# Altium schematic symbol library Logic.SchLib: 1 symbol
Pins are listed as number, name and electrical type; pins without a type are passive.

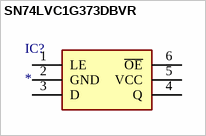
[diagram p0: symbol SN74LVC1G373DBVR]

## SN74LVC1G373DBVR
designator IC?
Integrated Circuit; Manufacturer_Name: Texas Instruments; Manufacturer_Part_Number: SN74LVC1G373DBVR; Description: Single D-Type Latch with 3S Output; Datasheet Link: http://www.ti.com/lit/gpn/sn74lvc1g373; Height: 1.45mm; Mouser Part Number: 595-SN74LVC1G373DBVR; Mouser Price/Stock: https://www.mouser.co.uk/ProductDetail/Texas-Instruments/SN74LVC1G373DBVR?qs=pajgIaoyDUhGcf%252BSO1j05w%3D%3D; Arrow Part Number: SN74LVC1G373DBVR; Arrow Price/Stock: https://www.arrow.com/en/products/sn74lvc1g373dbvr/texas-instruments?region=nac
footprint SOT95P280X145-6N (Footprint not found)
pins: 1 LE, 2 GND, 3 D, 4 Q, 5 VCC, 6 ~{OE}